# Altium footprint library rcl.PCBLIB: 487 footprints (part 27 of 31)
Each footprint in its own frame and in the unit in brackets; x right, y up, seen from the top. Pads: shape width x height; smd on the part's side, far side on the other; paste and mask are expansions set on the pad; w line width, h text height; cw(c..) or ccw(c..) is an arc to the next point about the centre after c.
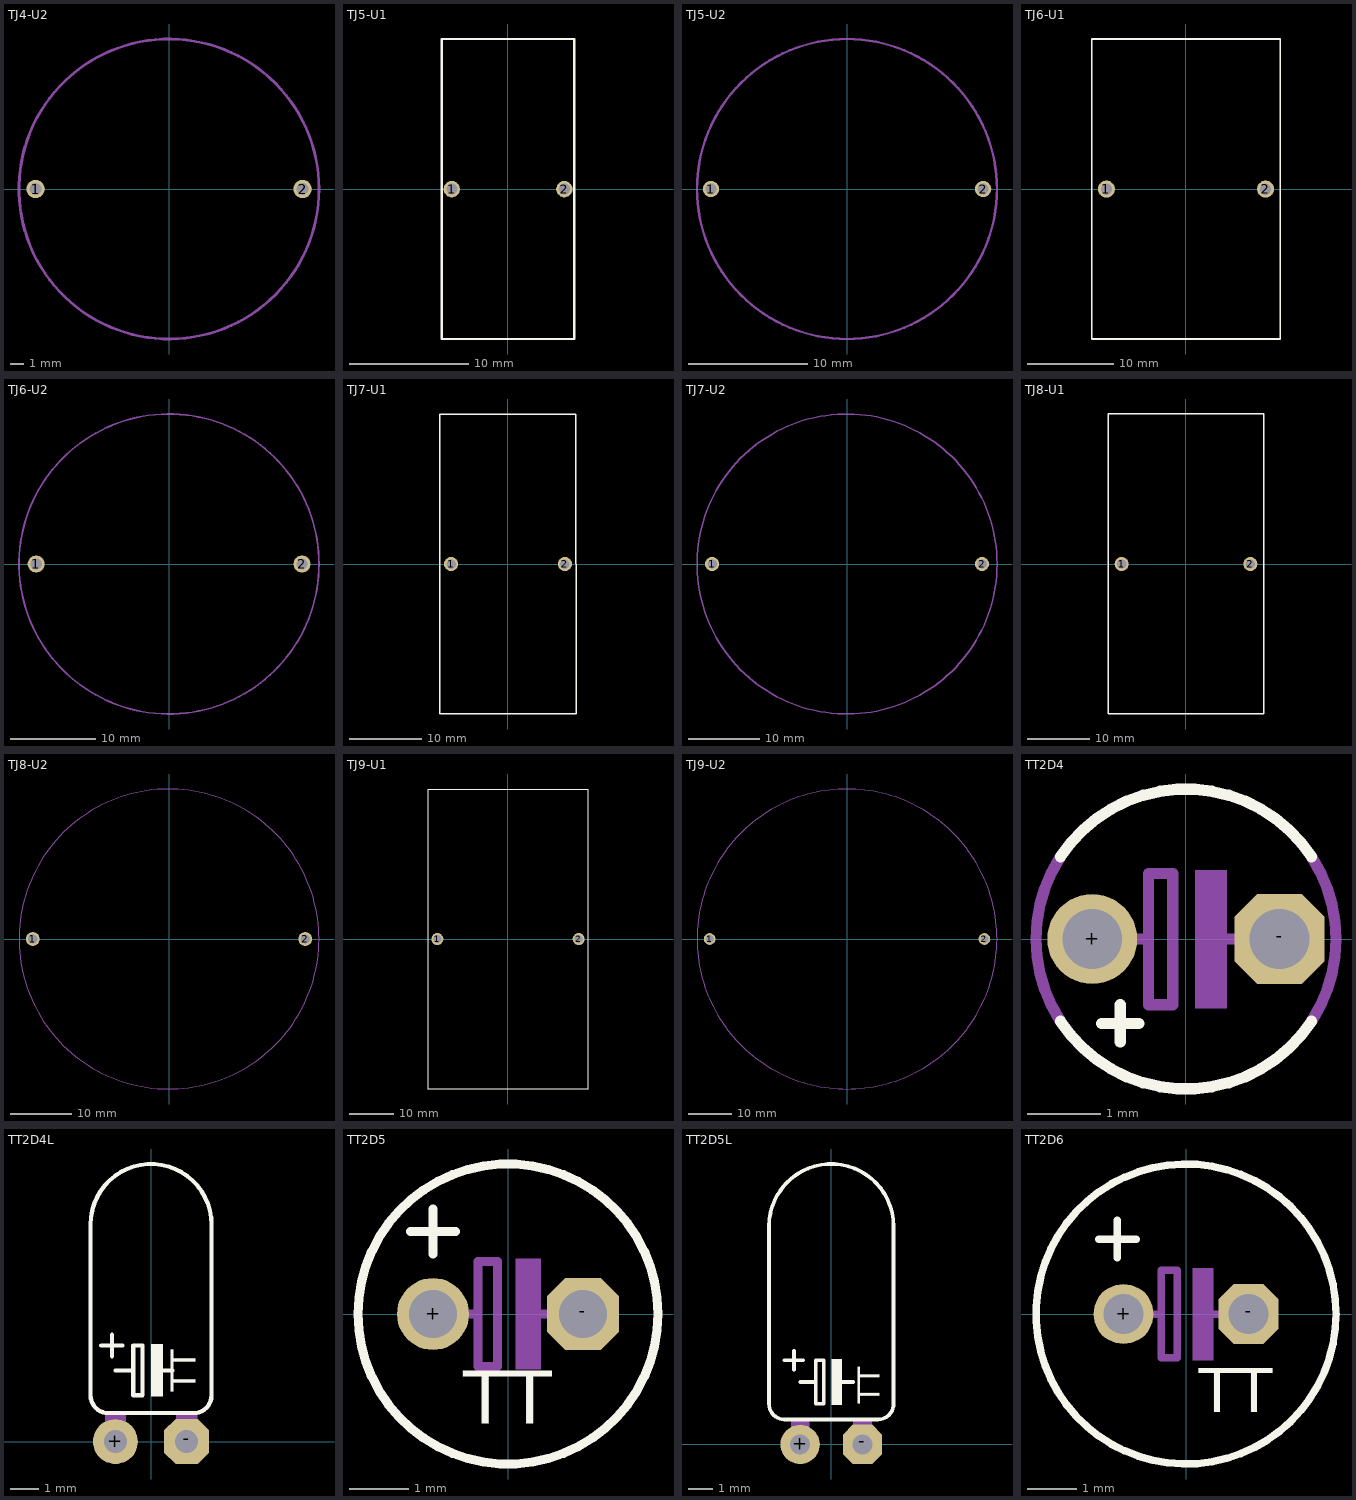
[diagram p26: the footprints below, top view; thin cyan lines are the x and y axes]

## TJ4-U2 [mil]
pads (2):
  round 54 hole 36: 1(-389.76,0) 2(390,0)
Mechanical 4:
  circle w8: c0,0 r438

## TJ5-U1 [mil]
pads (2):
  round 54 hole 36: 1(-185.04,0) 2(186,0)
Top Overlay:
  lines w8: -218.5,-494.09 219,-494.09 219,495 -218.5,495 -218.5,-494.09

## TJ5-U2 [mil]
pads (2):
  round 54 hole 36: 1(-450.79,0) 2(451,0)
Mechanical 4:
  circle w8: c0,0 r497

## TJ6-U1 [mil]
pads (2):
  round 78 hole 52: 1(-364.17,0) 2(365,0)
Top Overlay:
  lines w8: -431.1,-687.01 432,-687.01 432,688 -431.1,688 -431.1,-687.01

## TJ6-U2 [mil]
pads (2):
  round 78 hole 52: 1(-610.24,0) 2(611,0)
Mechanical 4:
  circle w8: c0,0 r689

## TJ7-U1 [mil]
pads (2):
  round 78 hole 52: 1(-311.02,0) 2(312,0)
Top Overlay:
  lines w8: -372.05,-820.87 373,-820.87 372,821 -372.05,821 -372.05,-820.87

## TJ7-U2 [mil]
pads (2):
  round 78 hole 52: 1(-740.16,0) 2(741,0)
Mechanical 4:
  circle w8: c0,0 r823

## TJ8-U1 [mil]
pads (2):
  round 90 hole 60: 1(-409.45,0) 2(410,0)
Top Overlay:
  lines w8: -494.09,-954.72 495,-954.72 495,955 -494.09,955 -494.09,-954.72

## TJ8-U2 [mil]
pads (2):
  round 90 hole 60: 1(-879.92,0) 2(880,0)
Mechanical 4:
  circle w8: c0,0 r969

## TJ9-U1 [mil]
pads (2):
  round 106.5 hole 71: 1(-625.98,0) 2(626,0)
Top Overlay:
  lines w8: -706.69,-1328.74 707,-1328.74 707,1329 -706.69,1329 -706.69,-1328.74

## TJ9-U2 [mil]
pads (2):
  round 106.5 hole 71: 1(-1244.09,0) 2(1245,0)
Mechanical 4:
  circle w8: c0,0 r1359

## TT2D4 [mil]
pads (2):
  round 48 hole 32: +(-50,0)
  oct 48x48 hole 32: -(50,0)
Top Overlay:
  lines w6: -66.87,-43.91 ccw(c0.07,0.04) 67,-43.91 ; -66.87,44 cw(c0.07,0.05) 67,44 ; -45,-45 -25,-45 ; -35,-55 -35,-35
Mechanical 16:
  rectangle: 5,-37 22,37
  lines w6: -66.87,-43.91 cw(c0.07,0.05) -66.87,44 ; -40,0 -20,0 ; 20,0 40,0 ; 67,-43.91 ccw(c0.06,0.05) 67,44 ; -20,0 -20,-35 -7,-35 -7,35 -20,35 -20,0

## TT2D4L [mil]
pads (2):
  round 63 hole 32: +(-50,0)
  oct 63x63 hole 32: -(50,0)
Top Overlay:
  rectangle: 0,63 17,137
  lines w6: -70,135 -40,135 ; -55,120 -55,150 ; -50,100 -25,100 ; 10,100 30,100 ; -25,100 -25,65 -12,65 -12,135 -25,135 -25,100 ; -85,65 ccw(c-60,65) -60,40 60,40 ccw(c60,65) 85,65 85,305 ccw(c0,305) -85,305 -85,65
  text "TT" at 75,70 h60.45
Mechanical 16:
  rectangle: -65,25 -35,40
  rectangle: 35,25 65,40
  rectangle: 35,-5 65,25
  rectangle: -65,-5 -35,25

## TT2D5 [mil]
pads (2):
  round 48 hole 32: +(-50,0)
  oct 48x48 hole 32: -(50,0)
Top Overlay:
  circle w6: c0,0 r100
  lines w6: -65,55 -35,55 ; -50,40 -50,70
  text "TT" at -30,-85 h60.45
Mechanical 16:
  rectangle: 5,-37 22,37
  lines w6: -40,0 -20,0 ; 20,0 40,0 ; -20,0 -20,-35 -7,-35 -7,35 -20,35 -20,0

## TT2D5L [mil]
pads (2):
  round 63 hole 32: +(-50,0)
  oct 63x63 hole 32: -(50,0)
Top Overlay:
  rectangle: 0,63 17,137
  lines w6: -75,135 -45,135 ; -60,120 -60,150 ; -50,100 -25,100 ; 15,100 35,100 ; -25,100 -25,65 -12,65 -12,135 -25,135 -25,100 ; -100,65 -100,350 cw(c0,350) 100,350 100,65 cw(c75,65) 75,40 -75,40 cw(c-75,65) -100,65
  text "TT" at 90,65 h60.45
Mechanical 16:
  rectangle: -65,25 -35,40
  rectangle: 35,25 65,40
  rectangle: 35,-5 65,25
  rectangle: -65,-5 -35,25

## TT2D6 [mil]
pads (2):
  round 48 hole 32: +(-50,0)
  oct 48x48 hole 32: -(50,0)
Top Overlay:
  circle w6: c0,0 r120
  lines w6: -70,60 -40,60 ; -55,45 -55,75
  text "TT" at 10,-90 h60.45
Mechanical 16:
  rectangle: 5,-37 22,37
  lines w6: -40,0 -20,0 ; 20,0 40,0 ; -20,0 -20,-35 -7,-35 -7,35 -20,35 -20,0